# EAGLE library part ADG1209 (library AnalogDevices)
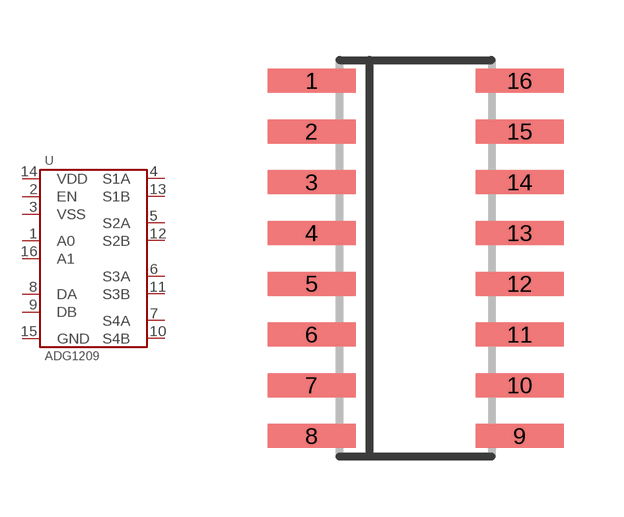
[diagram p1: symbol with the pads of SOIC-16; footprint SOIC-16]

Designator prefix U

## ADG1209YRZ  [SOIC-16]
1  A0
2  EN
3  VSS
4  S1A
5  S2A
6  S3A
7  S4A
8  DA
9  DB
10  S4B
11  S3B
12  S2B
13  S1B
14  VDD
15  GND
16  A1

## Footprint SOIC-16 (pad centres in mm)
smd 2.2 x 0.6: 1 -2.6,4.445; 2 -2.6,3.175; 3 -2.6,1.905; 4 -2.6,0.635; 5 -2.6,-0.635; 6 -2.6,-1.905; 7 -2.6,-3.175; 8 -2.6,-4.445; 9 2.6,-4.445; 10 2.6,-3.175; 11 2.6,-1.905; 12 2.6,-0.635; 13 2.6,0.635; 14 2.6,1.905; 15 2.6,3.175; 16 2.6,4.445